# Altium schematic symbol library TCA9548A.SchLib: 1 symbol
Pins are listed as number, name and electrical type; pins without a type are passive.

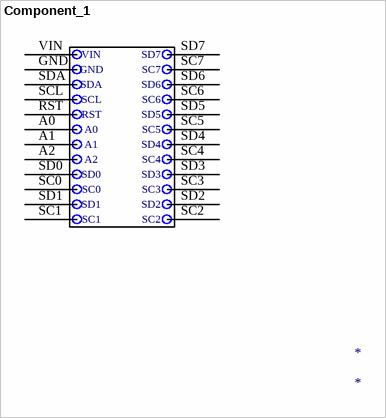
[diagram p0: symbol Component_1]

## Component_1
designator *
pins: A0, A1, A2, GND, RST, SC0, SC1, SC2, SC3, SC4, SC5, SC6, SC7, SCL, SD0, SD1, SD2, SD3, SD4, SD5, SD6, SD7, SDA, VIN